# Altium schematic symbol library INA180B4IDBVR.Schlib: 1 symbol
Pins are listed as number, name and electrical type; pins without a type are passive.

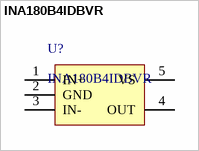
[diagram p0: symbol INA180B4IDBVR]

## INA180B4IDBVR
designator U?
Current Sense Amplifier 1 Circuit Rail-to-Rail SOT-23-5
pins: 1 IN+, 2 GND, 3 IN-, 4 OUT, 5 VS